# Altium integrated library FT230XS.IntLib: 1 symbol
Pins are listed as number, name and electrical type; pins without a type are passive.

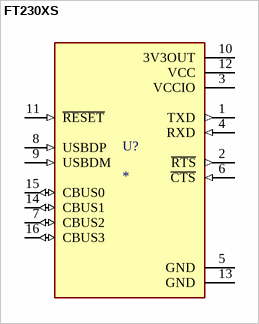
[diagram p0: symbol FT230XS]

## FT230XS
designator U?
USB Bridge, USB to UART USB 2.0 UART Interface 16-SSOP; MF: FTDI, Future Technology Devices International Ltd; MP: FT230XS; SnapEDA_Link: https://www.snapeda.com/parts/FT230XS/FTDI%252C+Future+Technology+Devices+International+Ltd/view-part/?ref=snap; Package: SSOP-16 FTDI; Value: *; Check_prices: https://www.snapeda.com/parts/FT230XS/FTDI%252C+Future+Technology+Devices+International+Ltd/view-part/?ref=eda
footprint SOP63P599X175-16N
pins: 1 TXD (out), 2 ~{RTS} (out), 3 VCCIO (power), 4 RXD (in), 5 GND (power), 6 ~{CTS} (in), 7 CBUS2 (io), 8 USBDP (in), 9 USBDM (in), 10 3V3OUT (power), 11 ~{RESET} (in), 12 VCC (power), 13 GND (power), 14 CBUS1 (io), 15 CBUS0 (io), 16 CBUS3 (io)